# Altium schematic symbol library SCH - SENSOR - CAS5050SRA.SchLib: 1 symbol
Pins are listed as number, name and electrical type; pins without a type are passive.

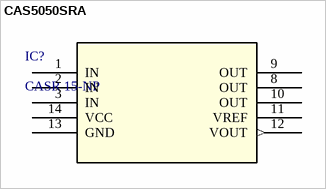
[diagram p0: symbol CAS5050SRA]

## CAS5050SRA
designator IC?, comment CASR 15-NP
No Description Available; Mfr_Name: LEM; Copyright: Copyright (C) 2022 Ultra Librarian. All rights reserved.; Manufacturer_Part_Number: CASR 15-NP; Digi-Key_Part_Number_1: 398-1092-5-ND; Digi-Key_Part_Number_2: 398-1092-5-NDL; Digi-Key_Part_Number_3: 398-1092-ND; RefDes: RefDes; Type: DEV
footprint CASR_LEM
pins: 1 IN, 2 IN, 3 IN, 8 OUT, 9 OUT, 10 OUT, 11 VREF (power), 12 VOUT (out), 13 GND, 14 VCC (power)